# Altium schematic symbol library symbols.SchLib: 117 symbols
Pins are listed as number, name and electrical type; pins without a type are passive.

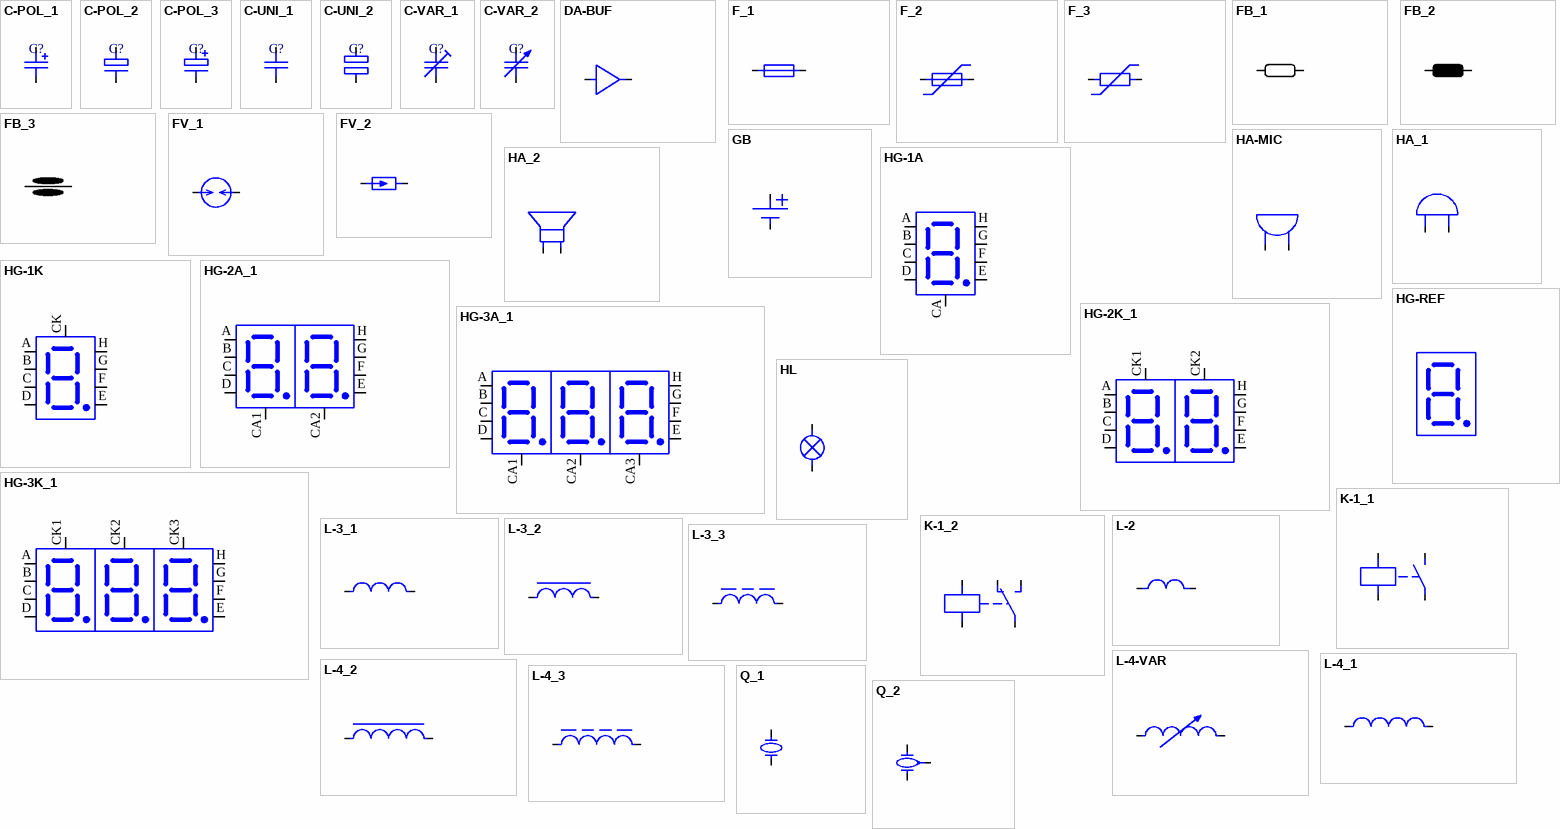
[diagram p0: symbols C-POL_1 to Q_2]

## C-POL_1
designator C?
pins: 1, 2

## C-POL_2
designator C?
pins: 1, 2

## C-POL_3
designator C?
pins: 1, 2

## C-UNI_1
designator C?
pins: 1, 2

## C-UNI_2
designator C?
pins: 1, 2

## C-VAR_1
designator C?
pins: 1, 2

## C-VAR_2
designator C?
pins: 1, 2

## DA-BUF
designator DA?
pins: 1, 2

## F_1
designator F?
pins: 1, 2

## F_2
designator F?
pins: 1, 2

## F_3
designator F?
pins: 1, 2

## FB_1
designator FB?
pins: 1, 2

## FB_2
designator FB?
pins: 1, 2

## FB_3
designator FB?
pins: 1, 2

## FV_1
designator FV?
pins: 1, 2

## FV_2
designator FV?
pins: 1, 2

## GB
designator GB?
pins: 1, 2

## HA-MIC
designator HA?
pins: 1, 2

## HA_1
designator HA?
pins: 1, 2

## HA_2
designator HA?
pins: 1, 2

## HG-1A
designator HG?
pins: A, B, C, CA, D, E, F, G, H

## HG-1K
designator HG?
pins: A, B, C, CK, D, E, F, G, H

## HG-2A_1
designator HG?
pins: A, B, C, CA1, CA2, D, E, F, G, H

## HG-2K_1
designator HG?
pins: A, B, C, CK1, CK2, D, E, F, G, H

## HG-3A_1
designator HG?
pins: A, B, C, CA1, CA2, CA3, D, E, F, G, H

## HG-3K_1
designator HG?
pins: A, B, C, CK1, CK2, CK3, D, E, F, G, H

## HG-REF
designator HG?

## HL
designator HL?
pins: 1, 2

## K-1_1
designator K?
pins: 1, 2, 3, 4

## K-1_2
designator K?
pins: 1, 2, 3, 4, 5

## L-2
designator L?
pins: 1, 2

## L-3_1
designator L?
pins: 1, 2

## L-3_2
designator L?
pins: 1, 2

## L-3_3
designator L?
pins: 1, 2

## L-4-VAR
designator L?
pins: 1, 2

## L-4_1
designator L?
pins: 1, 2

## L-4_2
designator L?
pins: 1, 2

## L-4_3
designator L?
pins: 1, 2

## Q_1
designator Q?
pins: 1, 2

## Q_2
designator Q?
pins: 1, 2, 3

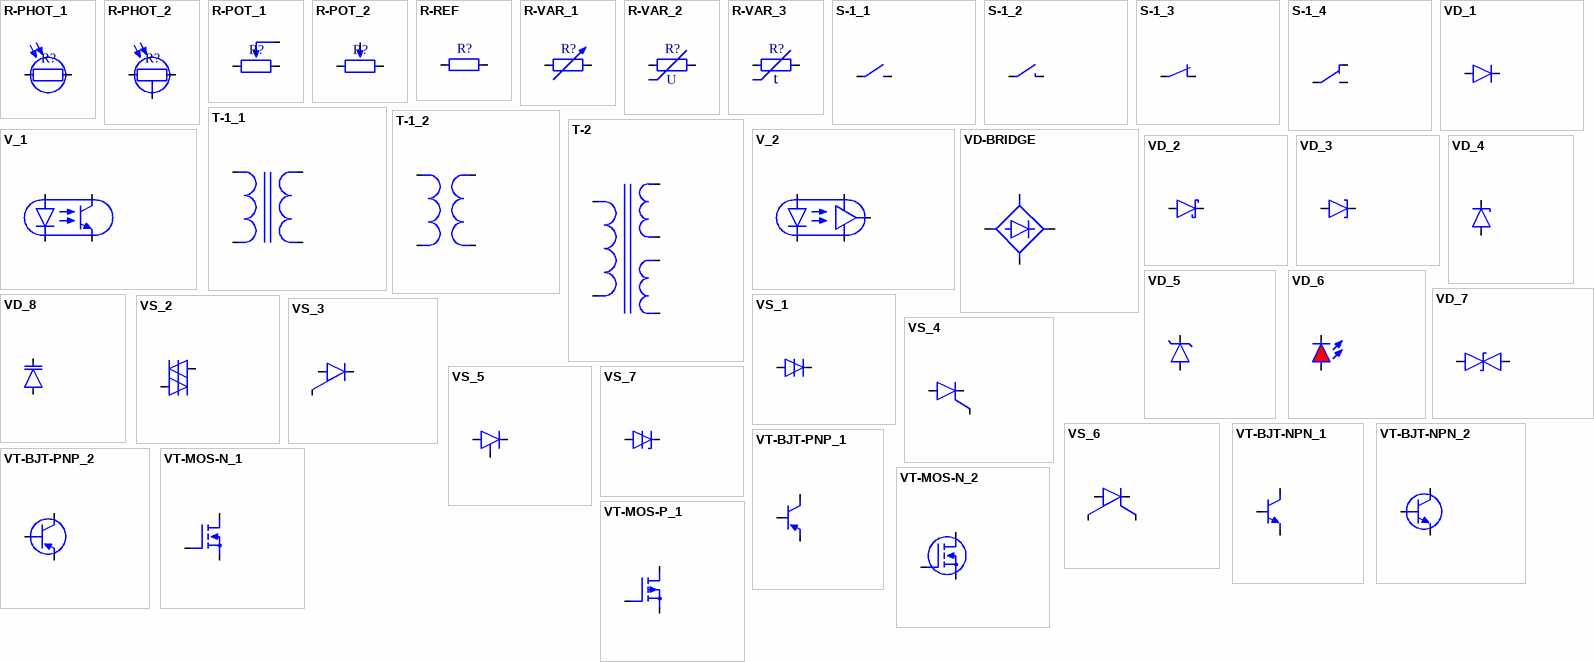
[diagram p1: symbols R-PHOT_1 to VT-MOS-P_1]

## R-PHOT_1
designator R?
pins: 1, 2

## R-PHOT_2
designator R?
pins: 1, 2, 3

## R-POT_1
designator R?
pins: 1, 2, 3

## R-POT_2
designator R?
pins: 1, 2, 3

## R-REF
designator R?
pins: 1, 2

## R-VAR_1
designator R?
pins: 1, 2

## R-VAR_2
designator R?
pins: 1, 2
text: U

## R-VAR_3
designator R?
pins: 1, 2
text: t

## S-1_1
designator S?
pins: 1, 2

## S-1_2
designator S?
pins: 1, 2

## S-1_3
designator S?
pins: 1, 2

## S-1_4
designator S?
pins: 1, 2, 3

## T-1_1
designator T?
pins: 1, 2, 3, 4

## T-1_2
designator T?
pins: 1, 2, 3, 4

## T-2
designator T?
pins: 1, 2, 3, 4, 5, 6

## V_1
designator V?
pins: 1, 2, 3, 4

## V_2
designator V?
pins: 1, 3, 4, 5, 6

## VD-BRIDGE
designator VD?
pins: 1, 2, 3, 4

## VD_1
designator VD?
pins: 1, 2

## VD_2
designator VD?
pins: 1, 2

## VD_3
designator VD?
pins: 1, 2

## VD_4
designator VD?
pins: 1, 2

## VD_5
designator VD?
pins: 1, 2

## VD_6
designator VD?
pins: 1, 2

## VD_7
designator VD?
pins: 1, 2

## VD_8
designator VD?
pins: 1, 2

## VS_1
designator VS?
pins: 1, 2

## VS_2
designator VS?
pins: 1, 2

## VS_3
designator VS?
pins: 1, 2, 3

## VS_4
designator VS?
pins: 1, 2, 3

## VS_5
designator VS?
pins: 1, 2, 3

## VS_6
designator VS?
pins: 1, 2, 3, 4

## VS_7
designator VS?
pins: 1, 2

## VT-BJT-NPN_1
designator VT?
pins: 1 B, 2 E, 3 C

## VT-BJT-NPN_2
designator VT?
pins: 1 B, 2 E, 3 C

## VT-BJT-PNP_1
designator VT?
pins: 1 B, 2 C, 3 E

## VT-BJT-PNP_2
designator VT?
pins: 1 B, 2 C, 3 E

## VT-MOS-N_1
designator VT?
pins: 1 G, 2 D, 3 S

## VT-MOS-N_2
designator VT?
pins: 1 G, 2 D, 3 S

## VT-MOS-P_1
designator VT?
pins: 1 G, 2 D, 3 S

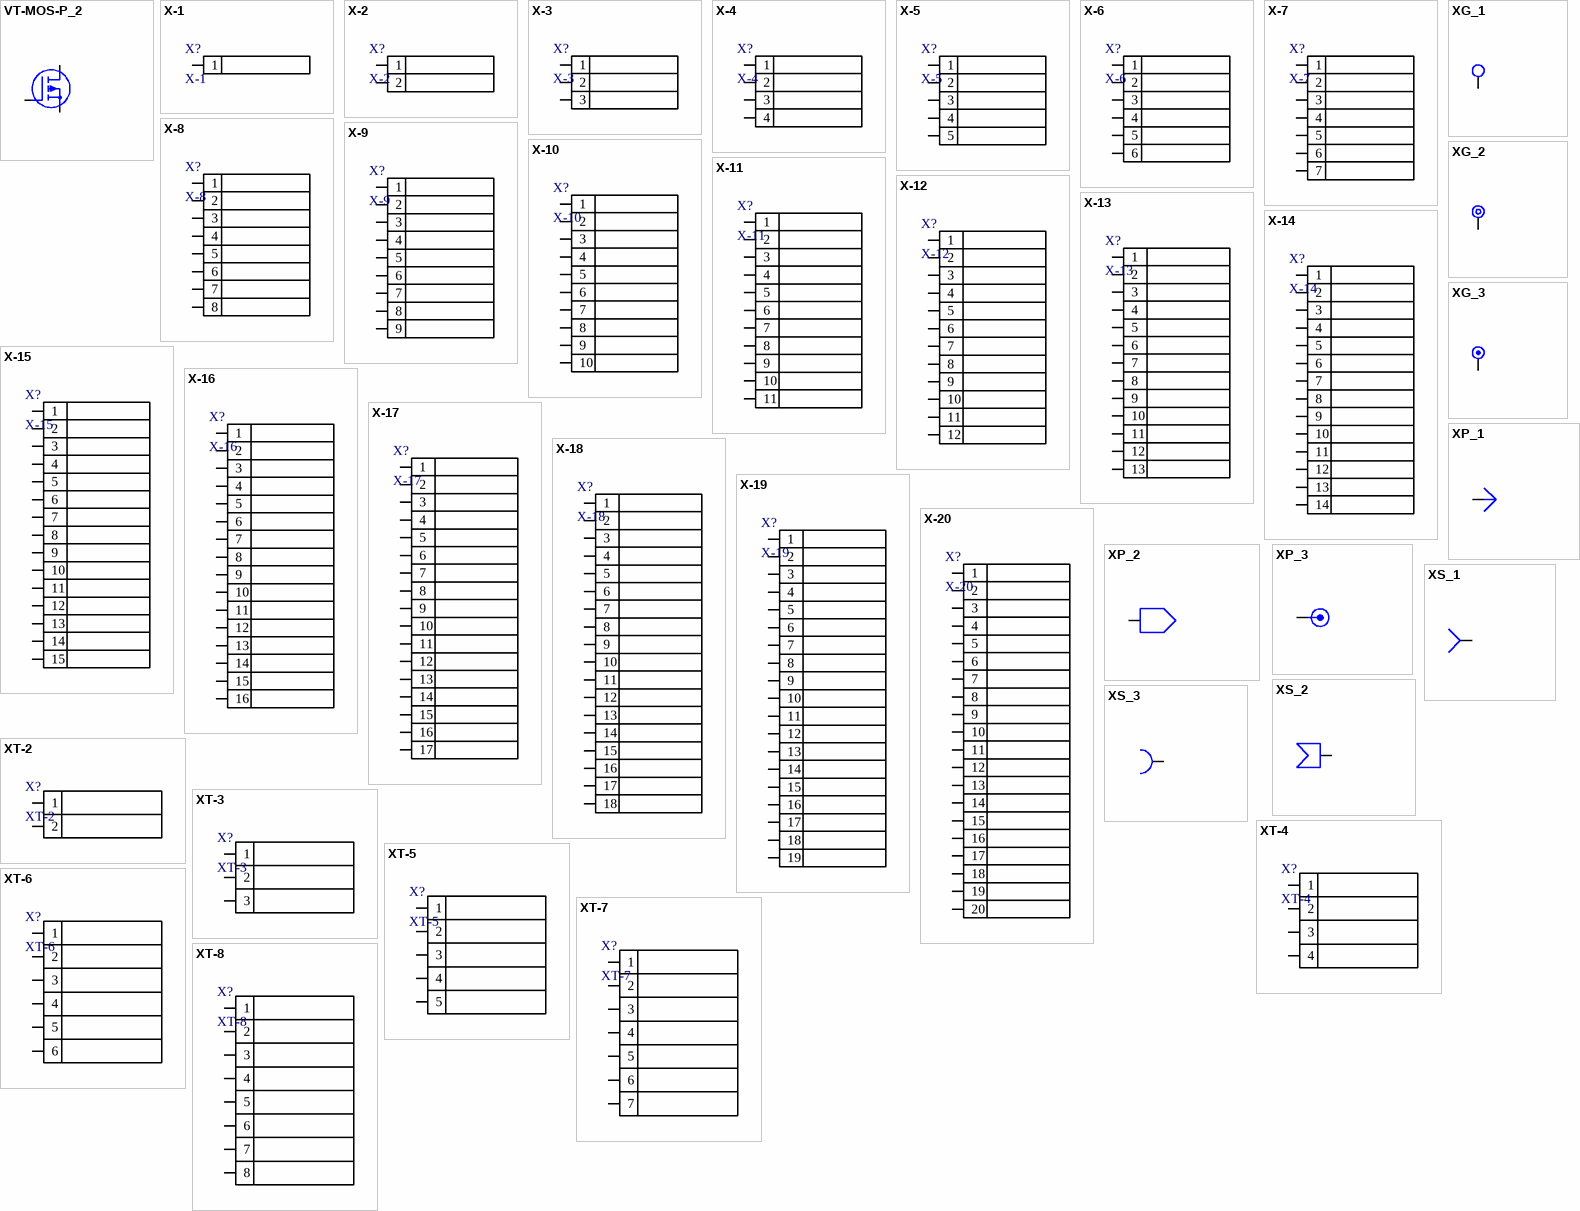
[diagram p2: symbols VT-MOS-P_2 to XT-8]

## VT-MOS-P_2
designator VT?
pins: 1 G, 2 D, 3 S

## X-1
designator X?
Name: Штыри PLS-6x2
footprint PLS-6x2
pins: 1

## X-2
designator X?
Name: Штыри PLS-6x2
footprint PLS-6x2
pins: 1, 2

## X-3
designator X?
Name: Штыри PLS-6x2
footprint PLS-6x2
pins: 1, 2, 3

## X-4
designator X?
Name: Штыри PLS-6x2
footprint PLS-6x2
pins: 1, 2, 3, 4

## X-5
designator X?
Name: Штыри PLS-6x2
footprint PLS-6x2
pins: 1, 2, 3, 4, 5

## X-6
designator X?
Name: Штыри PLS-6x2
footprint PLS-6x2
pins: 1, 2, 3, 4, 5, 6

## X-7
designator X?
Name: Штыри PLS-6x2
footprint PLS-6x2
pins: 1, 2, 3, 4, 5, 6, 7

## X-8
designator X?
Name: Штыри PLS-6x2
footprint PLS-6x2
pins: 1, 2, 3, 4, 5, 6, 7, 8

## X-9
designator X?
Name: Штыри PLS-6x2
footprint PLS-6x2
pins: 1, 2, 3, 4, 5, 6, 7, 8, 9

## X-10
designator X?
Name: Штыри PLS-6x2
footprint PLS-6x2
pins: 1, 2, 3, 4, 5, 6, 7, 8, 9, 10

## X-11
designator X?
Name: Штыри PLS-6x2
footprint PLS-6x2
pins: 1, 2, 3, 4, 5, 6, 7, 8, 9, 10, 11

## X-12
designator X?
Name: Штыри PLS-6x2
footprint PLS-6x2
pins: 1, 2, 3, 4, 5, 6, 7, 8, 9, 10, 11, 12

## X-13
designator X?
Name: Штыри PLS-6x2
footprint PLS-6x2
pins: 1, 2, 3, 4, 5, 6, 7, 8, 9, 10, 11, 12, 13

## X-14
designator X?
Name: Штыри PLS-6x2
footprint PLS-6x2
pins: 1, 2, 3, 4, 5, 6, 7, 8, 9, 10, 11, 12, 13, 14

## X-15
designator X?
Name: Штыри PLS-6x2
footprint PLS-6x2
pins: 1, 2, 3, 4, 5, 6, 7, 8, 9, 10, 11, 12, 13, 14, 15

## X-16
designator X?
Name: Штыри PLS-6x2
footprint PLS-6x2
pins: 1, 2, 3, 4, 5, 6, 7, 8, 9, 10, 11, 12, 13, 14, 15, 16

## X-17
designator X?
Name: Штыри PLS-6x2
footprint PLS-6x2
pins: 1, 2, 3, 4, 5, 6, 7, 8, 9, 10, 11, 12, 13, 14, 15, 16, 17

## X-18
designator X?
Name: Штыри PLS-6x2
footprint PLS-6x2
pins: 1, 2, 3, 4, 5, 6, 7, 8, 9, 10, 11, 12, 13, 14, 15, 16, 17, 18

## X-19
designator X?
Name: Штыри PLS-6x2
footprint PLS-6x2
pins: 1, 2, 3, 4, 5, 6, 7, 8, 9, 10, 11, 12, 13, 14, 15, 16, 17, 18, 19

## X-20
designator X?
Name: Штыри PLS-6x2
footprint PLS-6x2
pins: 1, 2, 3, 4, 5, 6, 7, 8, 9, 10, 11, 12, 13, 14, 15, 16, 17, 18, 19, 20

## XG_1
designator XG?
pins: 1

## XG_2
designator XG?
pins: 1

## XG_3
designator XG?
pins: 1

## XP_1
designator X?
pins: 1

## XP_2
designator X?
pins: 1

## XP_3
designator X?
pins: 1

## XS_1
designator X?
pins: 1

## XS_2
designator X?
pins: 1

## XS_3
designator X?
pins: 1

## XT-2
designator X?
Name: Штыри PLS-6x2
footprint PLS-6x2
pins: 1, 2

## XT-3
designator X?
Name: Штыри PLS-6x2
footprint PLS-6x2
pins: 1, 2, 3

## XT-4
designator X?
Name: Штыри PLS-6x2
footprint PLS-6x2
pins: 1, 2, 3, 4

## XT-5
designator X?
Name: Штыри PLS-6x2
footprint PLS-6x2
pins: 1, 2, 3, 4, 5

## XT-6
designator X?
Name: Штыри PLS-6x2
footprint PLS-6x2
pins: 1, 2, 3, 4, 5, 6

## XT-7
designator X?
Name: Штыри PLS-6x2
footprint PLS-6x2
pins: 1, 2, 3, 4, 5, 6, 7

## XT-8
designator X?
Name: Штыри PLS-6x2
footprint PLS-6x2
pins: 1, 2, 3, 4, 5, 6, 7, 8